# Altium footprint library CR2032.PcbLib: 2 footprints
Each footprint in its own frame and in the unit in brackets; x right, y up, seen from the top. Pads: shape width x height; smd on the part's side, far side on the other; paste and mask are expansions set on the pad; w line width, h text height; cw(c..) or ccw(c..) is an arc to the next point about the centre after c.
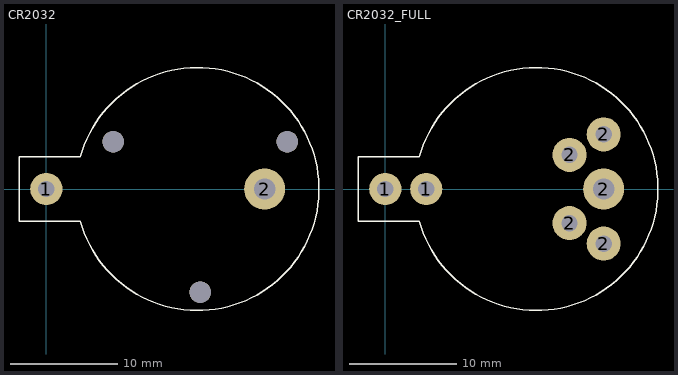
[diagram p0: the footprints below, top view; thin cyan lines are the x and y axes]

## CR2032 [mm]
pads (5):
  round 3 hole 1.5: 1(0,0)
  round 3.81 hole 2: 2(20.32,0)
  round 2 hole 2: ""(6.22,4.4) ""(14.32,-9.6) ""(22.42,4.4)
Top Overlay:
  lines w0.127: -2.54,-3 3.174,-3 ccw(c14.072,0) 3.174,2.999 -2.54,3 -2.54,-3
3D body: height 7.07, standoff -3.48, extent -3.301,-11.43 25.399,11.32

## CR2032_FULL [mm]
pads (7):
  round 3 hole 1.5: 1(0,0) 1(3.81,0)
  round 3.175 hole 1.524: 2(17.145,-3.175) 2(17.145,3.175) 2(20.32,-5.08) 2(20.32,5.08)
  round 3.81 hole 2: 2(20.32,0)
Top Overlay:
  lines w0.127: -2.54,-3 -2.54,3 3.174,3 cw(c14.072,0) 3.174,-2.999 -2.54,-3
3D body: height 7.07, standoff -3.48, extent -3.301,-11.43 25.399,11.32